# Altium schematic symbol library Memory_EEPROM.SchLib: 1 symbol
Pins are listed as number, name and electrical type; pins without a type are passive.

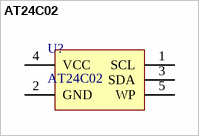
[diagram p0: symbol AT24C02]

## AT24C02
designator U?
I2C Serial EEPROM, 1.7V to 5.5V, 2Kb
footprint SOT-23-5
pins: 1 SCL, 2 GND, 3 SDA, 4 VCC, 5 WP